# Altium footprint library ZLGPCB.PCBLIB: 13 footprints
Each footprint in its own frame and in the unit in brackets; x right, y up, seen from the top. Pads: shape width x height; smd on the part's side, far side on the other; paste and mask are expansions set on the pad; w line width, h text height; cw(c..) or ccw(c..) is an arc to the next point about the centre after c.
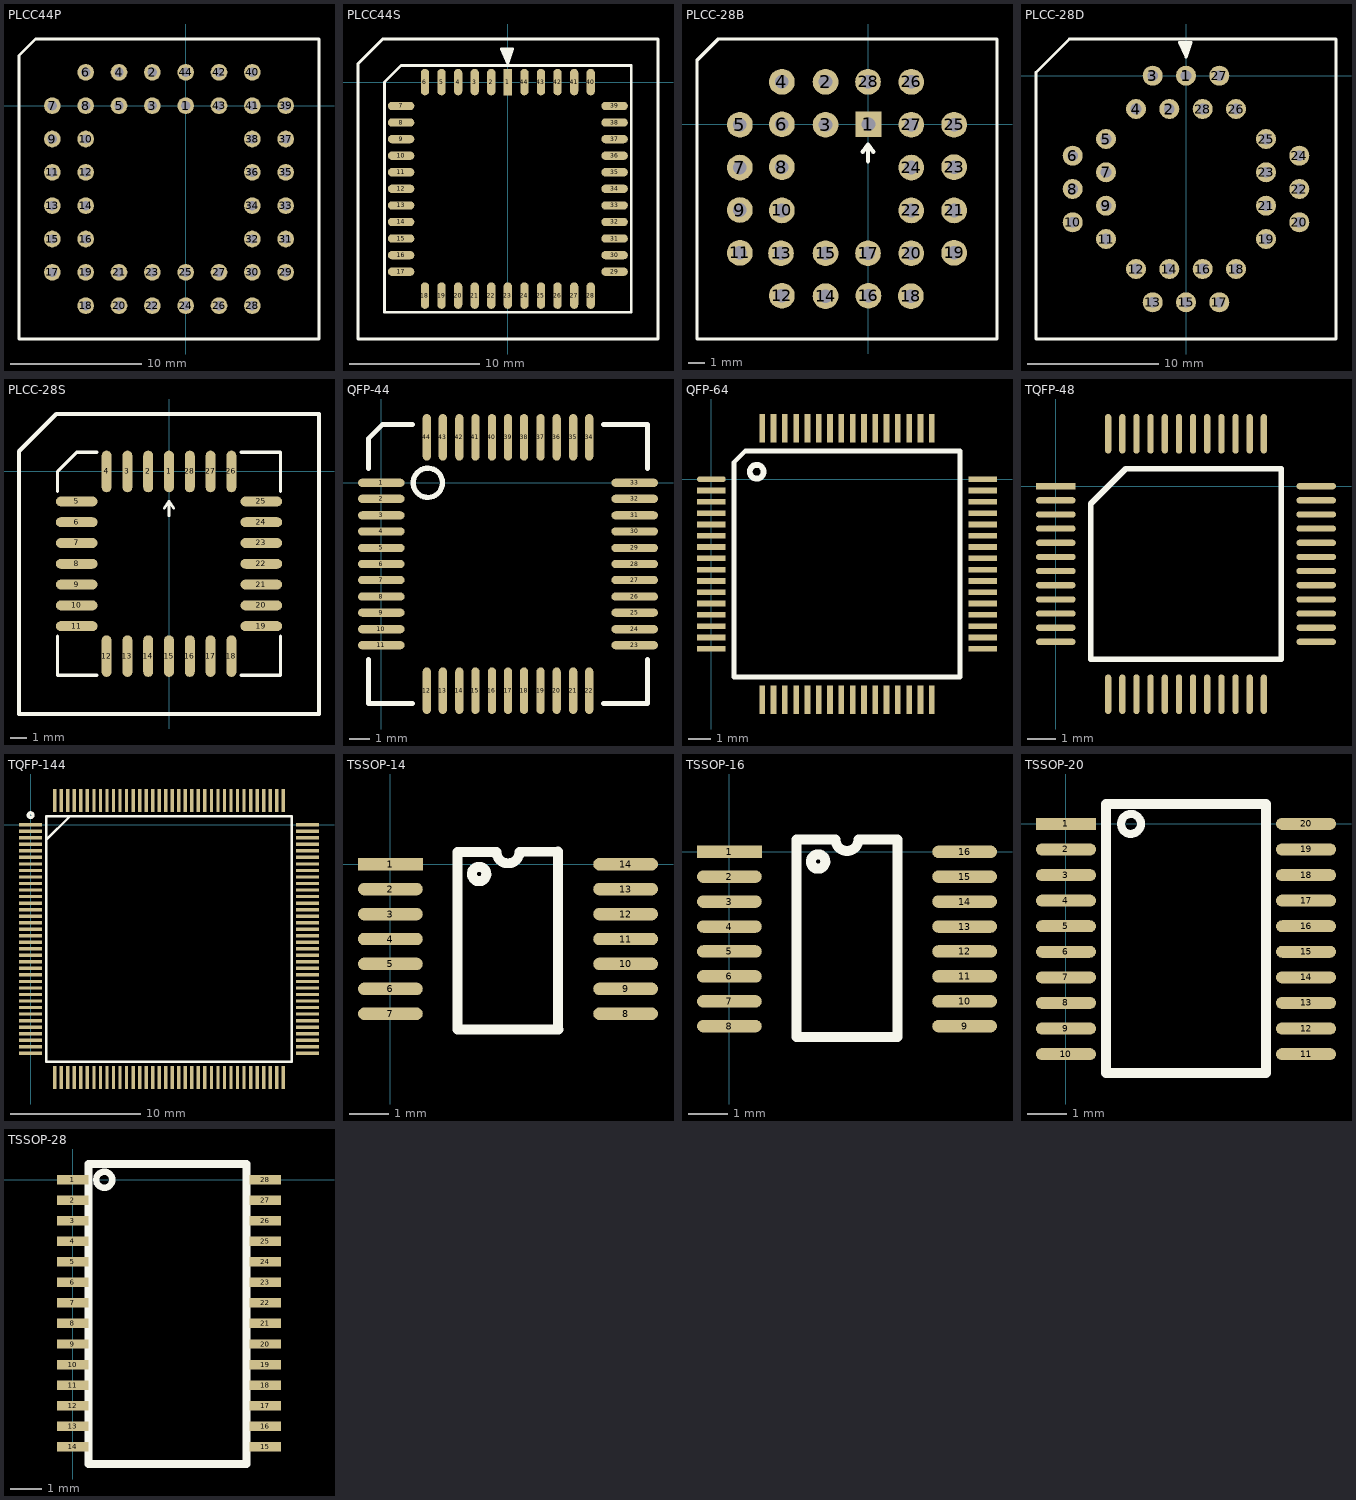
[diagram p0: the footprints below, top view; thin cyan lines are the x and y axes]

## PLCC44P [mil]
pads (44):
  round 50 hole 28: 1(0,0) 2(-100,100) 3(-100,0) 4(-200,100) 5(-200,0) 6(-300,100) 7(-400,0) 8(-300,0) 9(-400,-100) 10(-300,-100) 11(-400,-200) 12(-300,-200) 13(-400,-300) 14(-300,-300) 15(-400,-400) 16(-300,-400) 17(-400,-500) 18(-300,-600) 19(-300,-500) 20(-200,-600) 21(-200,-500) 22(-100,-600) 23(-100,-500) 24(0,-600) 25(0,-500) 26(100,-600) 27(100,-500) 28(200,-600) 29(300,-500) 30(200,-500) 31(300,-400) 32(200,-400) 33(300,-300) 34(200,-300) 35(300,-200) 36(200,-200) 37(300,-100) 38(200,-100) 39(300,0) 40(200,100) 41(200,0) 42(100,100) 43(100,0) 44(0,100)
TopOverlay:
  lines w8: -500,-700 400,-700 400,200 -450,200 -500,150 -500,-700

## PLCC44S [mil]
pads (44):
  rect 25x80 smd: 1(0,0)
  oval 25x80 smd: 2(-50,0) 3(-100,0) 4(-150,0) 5(-200,0) 6(-250,0) 18(-250,-644) 19(-200,-644) 20(-150,-644) 21(-100,-644) 22(-50,-644) 23(0,-644) 24(50,-644) 25(100,-644) 26(150,-644) 27(200,-644) 28(250,-644) 40(250,0) 41(200,0) 42(150,0) 43(100,0) 44(50,0)
  oval 80x25 smd: 7(-322,-72) 8(-322,-122) 9(-322,-172) 10(-322,-222) 11(-322,-272) 12(-322,-322) 13(-322,-372) 14(-322,-422) 15(-322,-472) 16(-322,-522) 17(-322,-572) 29(322,-572) 30(322,-522) 31(322,-472) 32(322,-422) 33(322,-372) 34(322,-322) 35(322,-272) 36(322,-222) 37(322,-172) 38(322,-122) 39(322,-72)
TopOverlay:
  lines w8: -15,100 0,70 ; -10,100 0,80 5,100 ; 0,100 0,70 ; 10,100 0,70 ; -372,-694 372,-694 372,50 -322,50 -372,0 -372,-694 ; -20,100 0,55 15,100 -20,100
  lines w10: -452,-775 -452,55 -377,130 453,130 453,-775 -452,-775

## PLCC-28B [mil]
pads (28):
  rect 60x60 hole 32: 1(0,0)
  round 60 hole 32: 2(-100,99) 3(-100,-1) 4(-202,99) 5(-300,-1) 6(-202,0) 7(-300,-101) 8(-202,-100) 9(-300,-200) 10(-202,-201) 11(-300,-300) 12(-202,-400) 13(-204,-301) 14(-100,-401) 15(-100,-301) 16(0,-400) 17(-1,-301) 18(99,-401) 19(200,-300) 20(100,-301) 21(200,-201) 22(100,-201) 23(200,-100) 24(100,-101) 25(200,-1) 26(100,99) 27(100,-1) 28(-1,99)
TopOverlay:
  lines w7.87: -400,-501 300,-501 300,199 -350,199 -400,149 -400,-501
  lines w10: -13,-64 -1,-48 ; -1,-86 -1,-48 ; 11,-64 -1,-48

## PLCC-28D [mil]
pads (28):
  round 60 hole 32: 1(0,0) 2(-50,-100) 3(-100,0) 4(-150,-100) 5(-240,-190) 6(-340,-240) 7(-240,-290) 8(-340,-340) 9(-240,-390) 10(-340,-440) 11(-240,-490) 12(-150,-580) 13(-100,-680) 14(-50,-580) 15(0,-680) 16(50,-580) 17(100,-680) 18(150,-580) 19(240,-490) 20(340,-440) 21(240,-390) 22(340,-340) 23(240,-290) 24(340,-240) 25(240,-190) 26(150,-100) 27(100,0) 28(50,-100)
TopOverlay:
  lines w8: -15,100 0,70 ; -10,100 0,80 5,100 ; 0,100 0,70 ; 10,100 0,70 ; -450,-790 -450,10 -350,110 450,110 450,-790 -450,-790 ; -20,100 15,100 0,55 -20,100

## PLCC-28S [mm]
pads (28):
  oval 0.6x2.5 smd: 1(0,0) 2(-1.25,0) 3(-2.5,0) 4(-3.75,0) 12(-3.75,-11.1) 13(-2.5,-11.1) 14(-1.25,-11.1) 15(0,-11.1) 16(1.25,-11.1) 17(2.5,-11.1) 18(3.75,-11.1) 26(3.75,0) 27(2.5,0) 28(1.25,0)
  oval 2.5x0.6 smd: 5(-5.55,-1.8) 6(-5.55,-3.05) 7(-5.55,-4.3) 8(-5.55,-5.55) 9(-5.55,-6.8) 10(-5.55,-8.05) 11(-5.55,-9.3) 19(5.55,-9.3) 20(5.55,-8.05) 21(5.55,-6.8) 22(5.55,-5.55) 23(5.55,-4.3) 24(5.55,-3.05) 25(5.55,-1.8)
TopOverlay:
  lines w0.154: -0.279,-2.21 0,-1.778 ; 0,-2.667 0,-1.778 ; 0.279,-2.21 0,-1.778
  lines w0.2: -6.7,-9.9 -6.7,-12.25 -4.35,-12.25 ; -6.7,-1.2 -6.7,0 -5.55,1.15 -4.35,1.15 ; 4.35,-12.25 6.7,-12.25 6.7,-9.9 ; 4.35,1.15 6.7,1.15 6.7,-1.2
  lines w0.254: -9.017,-14.58 -9.017,1.219 -6.782,3.454 9.017,3.454 9.017,-14.58 -9.017,-14.58

## QFP-44 [mil]
pads (44):
  oval 90x16 smd: 1(0,0) 2(0,-31) 3(0,-63) 4(0,-94) 5(0,-126) 6(0,-157) 7(0,-188) 8(0,-220) 9(0,-251) 10(0,-283) 11(0,-314) 23(490,-314) 24(490,-283) 25(490,-251) 26(490,-220) 27(490,-188) 28(490,-157) 29(490,-126) 30(490,-94) 31(490,-63) 32(490,-31) 33(490,0)
  oval 16x90 smd: 12(88,-402) 13(119,-402) 14(151,-402) 15(182,-402) 16(214,-402) 17(245,-402) 18(276,-402) 19(308,-402) 20(339,-402) 21(371,-402) 22(402,-402) 34(402,88) 35(371,88) 36(339,88) 37(308,88) 38(276,88) 39(245,88) 40(214,88) 41(182,88) 42(151,88) 43(119,88) 44(88,88)
TopOverlay:
  circle w10: c90,0 r28.28
  lines w10: -25,-342 -25,-427 60,-427 ; -25,28 -25,85 3,113 60,113 ; 430,-427 515,-427 515,-342 ; 430,113 515,113 515,28

## QFP-64 [mil]
pads (64):
  oval 50x10 smd: 1(0,0)
  rect 50x10 smd: 2(0,-19.69) 3(0,-39.37) 4(0,-59.06) 5(0,-78.74) 6(0,-98.43) 7(0,-118.11) 8(0,-137.8) 9(0,-157.48) 10(0,-177.17) 11(0,-196.85) 12(0,-216.54) 13(0,-236.22) 14(0,-255.91) 15(0,-275.59) 16(0,-295.28) 33(472.44,-295.28) 34(472.44,-275.59) 35(472.44,-255.91) 36(472.44,-236.22) 37(472.44,-216.54) 38(472.44,-196.85) 39(472.44,-177.17) 40(472.44,-157.48) 41(472.44,-137.8) 42(472.44,-118.11) 43(472.44,-98.43) 44(472.44,-78.74) 45(472.44,-59.06) 46(472.44,-39.37) 47(472.44,-19.69) 48(472.44,0)
  rect 10x50 smd: 17(88.58,-383.86) 18(108.27,-383.86) 19(127.95,-383.86) 20(147.64,-383.86) 21(167.32,-383.86) 22(187.01,-383.86) 23(206.69,-383.86) 24(226.38,-383.86) 25(246.06,-383.86) 26(265.75,-383.86) 27(285.43,-383.86) 28(305.12,-383.86) 29(324.8,-383.86) 30(344.49,-383.86) 31(364.17,-383.86) 32(383.86,-383.86) 49(383.86,88.58) 50(364.17,88.58) 51(344.49,88.58) 52(324.8,88.58) 53(305.12,88.58) 54(285.43,88.58) 55(265.75,88.58) 56(246.06,88.58) 57(226.38,88.58) 58(206.69,88.58) 59(187.01,88.58) 60(167.32,88.58) 61(147.64,88.58) 62(127.95,88.58) 63(108.27,88.58) 64(88.58,88.58)
TopOverlay:
  circle w10: c78.96,13 r12.04
  lines w8: 39.37,-344.49 433.07,-344.49 433.07,49.21 59.05,49.21 39.37,29.53 39.37,-344.49

## TQFP-48 [mm]
pads (48):
  rect 1.4x0.22 smd: 1(0,0)
  oval 1.4x0.22 smd: 2(0,-0.5) 3(0,-1) 4(0,-1.5) 5(0,-2) 6(0,-2.5) 7(0,-3) 8(0,-3.5) 9(0,-4) 10(0,-4.5) 11(0,-5) 12(0,-5.5) 25(9.2,-5.5) 26(9.2,-5) 27(9.2,-4.5) 28(9.2,-4) 29(9.2,-3.5) 30(9.2,-3) 31(9.2,-2.5) 32(9.2,-2) 33(9.2,-1.5) 34(9.2,-1) 35(9.2,-0.5) 36(9.2,0)
  oval 0.22x1.4 smd: 13(1.85,-7.35) 14(2.35,-7.35) 15(2.85,-7.35) 16(3.35,-7.35) 17(3.85,-7.35) 18(4.35,-7.35) 19(4.85,-7.35) 20(5.35,-7.35) 21(5.85,-7.35) 22(6.35,-7.35) 23(6.85,-7.35) 24(7.35,-7.35) 37(7.35,1.85) 38(6.85,1.85) 39(6.35,1.85) 40(5.85,1.85) 41(5.35,1.85) 42(4.85,1.85) 43(4.35,1.85) 44(3.85,1.85) 45(3.35,1.85) 46(2.85,1.85) 47(2.35,1.85) 48(1.85,1.85)
TopOverlay:
  lines w0.2: 1.235,-6.115 7.965,-6.115 7.965,0.615 2.47,0.615 1.235,-0.62 1.235,-6.115

## TQFP-144 [mil]
pads (144):
  rect 70x10 smd: 1(0,0) 2(0,-19.68) 3(0,-39.37) 4(0,-59.05) 5(0,-78.74) 6(0,-98.42) 7(0,-118.11) 8(0,-137.79) 9(0,-157.48) 10(0,-177.16) 11(0,-196.85) 12(0,-216.53) 13(0,-236.22) 14(0,-255.91) 15(0,-275.59) 16(0,-295.28) 17(0,-314.96) 18(0,-334.65) 19(0,-354.33) 20(0,-374.02) 21(0,-393.7) 22(0,-413.39) 23(0,-433.07) 24(0,-452.76) 25(0,-472.44) 26(0,-492.13) 27(0,-511.81) 28(0,-531.5) 29(0,-551.18) 30(0,-570.87) 31(0,-590.55) 32(0,-610.24) 33(0,-629.92) 34(0,-649.61) 35(0,-669.29) 36(0,-688.98) 73(834.65,-688.98) 74(834.65,-669.29) 75(834.65,-649.61) 76(834.65,-629.92) 77(834.65,-610.24) 78(834.65,-590.55) 79(834.65,-570.87) 80(834.65,-551.18) 81(834.65,-531.5) 82(834.65,-511.81) 83(834.65,-492.13) 84(834.65,-472.44) 85(834.65,-452.76) 86(834.65,-433.07) 87(834.65,-413.39) 88(834.65,-393.7) 89(834.65,-374.02) 90(834.65,-354.33) 91(834.65,-334.65) 92(834.65,-314.96) 93(834.65,-295.28) 94(834.65,-275.59) 95(834.65,-255.91) 96(834.65,-236.22) 97(834.65,-216.53) 98(834.65,-196.85) 99(834.65,-177.16) 100(834.65,-157.48) 101(834.65,-137.79) 102(834.65,-118.11) 103(834.65,-98.42) 104(834.65,-78.74) 105(834.65,-59.05) 106(834.65,-39.37) 107(834.65,-19.68) 108(834.65,0)
  rect 10x70 smd: 37(72.83,-761.81) 38(92.52,-761.81) 39(112.2,-761.81) 40(131.89,-761.81) 41(151.57,-761.81) 42(171.26,-761.81) 43(190.94,-761.81) 44(210.63,-761.81) 45(230.31,-761.81) 46(250,-761.81) 47(269.69,-761.81) 48(289.37,-761.81) 49(309.06,-761.81) 50(328.74,-761.81) 51(348.43,-761.81) 52(368.11,-761.81) 53(387.8,-761.81) 54(407.48,-761.81) 55(427.17,-761.81) 56(446.85,-761.81) 57(466.54,-761.81) 58(486.22,-761.81) 59(505.91,-761.81) 60(525.59,-761.81) 61(545.28,-761.81) 62(564.96,-761.81) 63(584.65,-761.81) 64(604.33,-761.81) 65(624.02,-761.81) 66(643.7,-761.81) 67(663.39,-761.81) 68(683.07,-761.81) 69(702.76,-761.81) 70(722.44,-761.81) 71(742.13,-761.81) 72(761.81,-761.81) 109(761.81,72.83) 110(742.13,72.83) 111(722.44,72.83) 112(702.76,72.83) 113(683.07,72.83) 114(663.39,72.83) 115(643.7,72.83) 116(624.02,72.83) 117(604.33,72.83) 118(584.65,72.83) 119(564.96,72.83) 120(545.28,72.83) 121(525.59,72.83) 122(505.91,72.83) 123(486.22,72.83) 124(466.54,72.83) 125(446.85,72.83) 126(427.17,72.83) 127(407.48,72.83) 128(387.8,72.83) 129(368.11,72.83) 130(348.43,72.83) 131(328.74,72.83) 132(309.06,72.83) 133(289.37,72.83) 134(269.69,72.83) 135(250,72.83) 136(230.31,72.83) 137(210.63,72.83) 138(190.94,72.83) 139(171.26,72.83) 140(151.57,72.83) 141(131.89,72.83) 142(112.2,72.83) 143(92.52,72.83) 144(72.83,72.83)
TopOverlay:
  circle w9.84: c-0.02,29 r7.02
  lines w7.8: 47.41,-45 118,25.59
  lines w7.87: 47.24,-714.57 787.4,-714.57 787.4,25.59 47.24,25.59 47.24,-714.57

## TSSOP-14 [mil]
pads (14):
  rect 65x12.5 smd: 1(0,0)
  oval 65x12.5 smd: 2(0,-25) 3(0,-50) 4(0,-75) 5(0,-100) 6(0,-125) 7(0,-150) 8(236,-150) 9(236,-125) 10(236,-100) 11(236,-75) 12(236,-50) 13(236,-25) 14(236,0)
TopOverlay:
  lines w10: 89,-17 cw(c89,-9.79) 90.02,-16.93 ; 168,-166 168,13 129.54,12.5 cw(c118,12.5) 106.46,12.5 67.5,12.5 67.5,-166 168.5,-166

## TSSOP-16 [mil]
pads (16):
  rect 65x12.5 smd: 1(0,0)
  oval 65x12.5 smd: 2(0,-25) 3(0,-50) 4(0,-75) 5(0,-100) 6(0,-125) 7(0,-150) 8(0,-175) 9(236,-175) 10(236,-150) 11(236,-125) 12(236,-100) 13(236,-75) 14(236,-50) 15(236,-25) 16(236,0)
TopOverlay:
  lines w10: 89,-17 cw(c89,-9.79) 90.02,-16.93 ; 67.5,-186 168.5,-186 168.5,12.5 129.54,12.5 cw(c118,12.5) 106.46,12.5 67.5,12.5 67.5,-186

## TSSOP-20 [mil]
pads (20):
  rect 60x12 smd: 1(0,0)
  oval 60x12 smd: 2(0,-25.59) 3(0,-51.18) 4(0,-76.77) 5(0,-102.36) 6(0,-127.95) 7(0,-153.54) 8(0,-179.13) 9(0,-204.72) 10(0,-230.31) 11(240.16,-230.31) 12(240.16,-204.72) 13(240.16,-179.13) 14(240.16,-153.54) 15(240.16,-127.95) 16(240.16,-102.36) 17(240.16,-76.77) 18(240.16,-51.18) 19(240.16,-25.59) 20(240.16,0)
TopOverlay:
  circle w8: c65,0 r10
  lines w10: 40,-249.02 40,20 200,20 200,-249.02 40,-249.02

## TSSOP-28 [mm]
pads (28):
  rect 1x0.3 smd: 1(0,0) 2(0,-0.65) 3(0,-1.3) 4(0,-1.95) 5(0,-2.6) 6(0,-3.25) 7(0,-3.9) 8(0,-4.55) 9(0,-5.2) 10(0,-5.85) 11(0,-6.5) 12(0,-7.15) 13(0,-7.8) 14(0,-8.45) 15(6.1,-8.45) 16(6.1,-7.8) 17(6.1,-7.15) 18(6.1,-6.5) 19(6.1,-5.85) 20(6.1,-5.2) 21(6.1,-4.55) 22(6.1,-3.9) 23(6.1,-3.25) 24(6.1,-2.6) 25(6.1,-1.95) 26(6.1,-1.3) 27(6.1,-0.65) 28(6.1,0)
TopOverlay:
  circle w0.203: c1,0 r0.254
  lines w0.254: 0.5,-9 0.5,0.5 5.5,0.5 5.5,-9 0.5,-9